# Altium footprint library ИК сенсоры.PcbLib: 5 footprints
Each footprint in its own frame and in the unit in brackets; x right, y up, seen from the top. Pads: shape width x height; smd on the part's side, far side on the other; paste and mask are expansions set on the pad; w line width, h text height; cw(c..) or ccw(c..) is an arc to the next point about the centre after c.
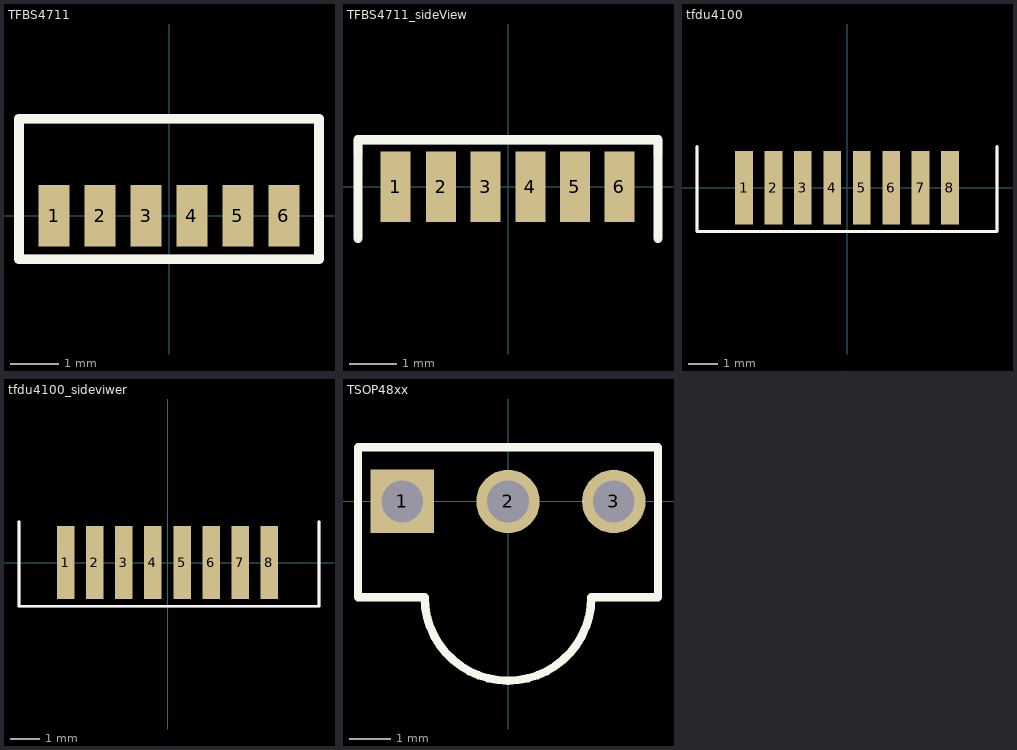
[diagram p0: the footprints below, top view; thin cyan lines are the x and y axes]

## TFBS4711 [mm]
pads (6):
  rect 0.64x1.27 smd: 1(-2.375,0) 2(-1.425,0) 3(-0.475,0) 4(0.475,0) 5(1.425,0) 6(2.375,0)
Top Overlay:
  lines w0.2: -3.1,-0.9 3.1,-0.9 3.1,2 -3.1,2 -3.1,-0.9
TopAssy:
  lines w0.2: -3.1,-0.9 -3.1,2 3.1,2 3.1,-0.9 -3.1,-0.9
  text ".Designator" at -2.7,0.4 h1.52
3D body "TFBS4711.STEP": height 3, standoff -0.03, extent -3,0 3,1.9

## TFBS4711_sideView [mm]
pads (6):
  rect 0.64x1.5 smd: 1(-2.4,0) 2(-1.425,0) 3(-0.475,0) 4(0.475,0) 5(1.425,0) 6(2.375,0)
Top Overlay:
  lines w0.2: -3.2,-1.1 -3.2,1 ; -3.2,0.7 -3.2,1 ; 3.2,-1.1 3.2,1 ; 3.2,0.7 3.2,1 ; -3.2,1 3.2,1
TopAssy:
  lines w0.2: -3.2,0.7 -3.2,1 3.2,1 3.2,0.7
  text ".Designator" at -2.7,0.4 h1.52
3D body "User Library-TFBS4711.STEP": height 1.9, standoff 0, extent -3,-2.5 3,0.527

## tfdu4100 [mm]
pads (8):
  rect 0.6x2.5 smd: 1(-3.5,0) 2(-2.5,0) 3(-1.5,0) 4(-0.5,0) 5(0.5,0) 6(1.5,0) 7(2.5,0) 8(3.5,0)
Top Overlay:
  lines w0.1: -5.1,1.4 -5.1,-1.5 5.1,-1.5 5.1,1.4
TopAssy:
  lines w0.1: -5.1,1.4 -5.1,-1.5 5.1,-1.5 5.1,1.4
  text ".Designator" at -3.2,-0.5 h1.52
3D body "TFDU4101.STEP": height 4.28, standoff -0.03, extent -4.953,-0.5 4.953,4.817

## tfdu4100_sideviwer [mm]
pads (8):
  rect 0.6x2.5 smd: 1(-3.5,0) 2(-2.5,0) 3(-1.5,0) 4(-0.5,0) 5(0.5,0) 6(1.5,0) 7(2.5,0) 8(3.5,0)
Top Overlay:
  lines w0.1: -5.1,1.4 -5.1,-1.5 5.2,-1.5 5.2,1.4
TopAssy:
  lines w0.1: -5.1,1.4 -5.1,-1.5 5.2,-1.5 5.2,1.4
  text ".Designator" at -3.5,-0.5 h1.52
3D body "TFDU4101.STEP": height 4.91, standoff -0.4, extent -4.906,-0.3 5,4.005

## TSOP48xx [mil]
pads (3):
  rect 60x60 hole 39.37: 1(-100,0)
  round 60 hole 39.37: 2(0,0) 3(100,0)
Top Overlay:
  lines w7.87: -141.73,-90.55 -141.73,51.18 141.73,51.18 141.73,-90.55 78.74,-90.55 cw(c0,-90.55) -78.74,-90.55 -141.73,-90.55